# EAGLE library part NAND (library Samsung)
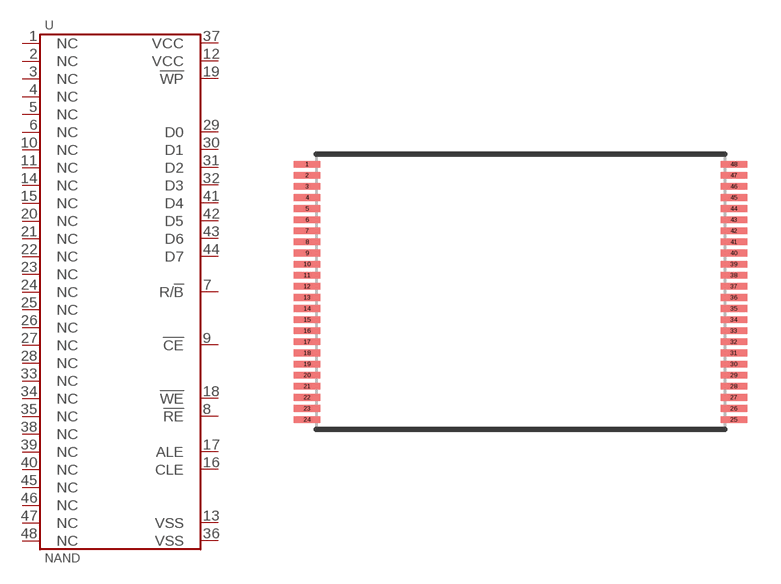
[diagram p0: symbol with the pads of TSOP1-48; footprint TSOP1-48]

Designator prefix U

## NAND  [TSOP1-48]
1  NC
2  NC
3  NC
4  NC
5  NC
6  NC
7  R/!B
8  !RE
9  !CE
10  NC
11  NC
12  VCC
13  VSS
14  NC
15  NC
16  CLE
17  ALE
18  !WE
19  !WP
20  NC
21  NC
22  NC
23  NC
24  NC
25  NC
26  NC
27  NC
28  NC
29  D0
30  D1
31  D2
32  D3
33  NC
34  NC
35  NC
36  VSS
37  VCC
38  NC
39  NC
40  NC
41  D4
42  D5
43  D6
44  D7
45  NC
46  NC
47  NC
48  NC

## Footprint TSOP1-48 (pad centres in mm)
smd 1.2 x 0.3: 1 -9.6,5.75; 2 -9.6,5.25; 3 -9.6,4.75; 4 -9.6,4.25; 5 -9.6,3.75; 6 -9.6,3.25; 7 -9.6,2.75; 8 -9.6,2.25; 9 -9.6,1.75; 10 -9.6,1.25; 11 -9.6,0.75; 12 -9.6,0.25; 13 -9.6,-0.25; 14 -9.6,-0.75; 15 -9.6,-1.25; 16 -9.6,-1.75; 17 -9.6,-2.25; 18 -9.6,-2.75; 19 -9.6,-3.25; 20 -9.6,-3.75; 21 -9.6,-4.25; 22 -9.6,-4.75; 23 -9.6,-5.25; 24 -9.6,-5.75; 25 9.6,-5.75; 26 9.6,-5.25; 27 9.6,-4.75; 28 9.6,-4.25; 29 9.6,-3.75; 30 9.6,-3.25; 31 9.6,-2.75; 32 9.6,-2.25; 33 9.6,-1.75; 34 9.6,-1.25; 35 9.6,-0.75; 36 9.6,-0.25; 37 9.6,0.25; 38 9.6,0.75; 39 9.6,1.25; 40 9.6,1.75; 41 9.6,2.25; 42 9.6,2.75; 43 9.6,3.25; 44 9.6,3.75; 45 9.6,4.25; 46 9.6,4.75; 47 9.6,5.25; 48 9.6,5.75